# Altium schematic symbol library AutonomousVehicle_Lib.SchLib: 36 symbols
Pins are listed as number, name and electrical type; pins without a type are passive.

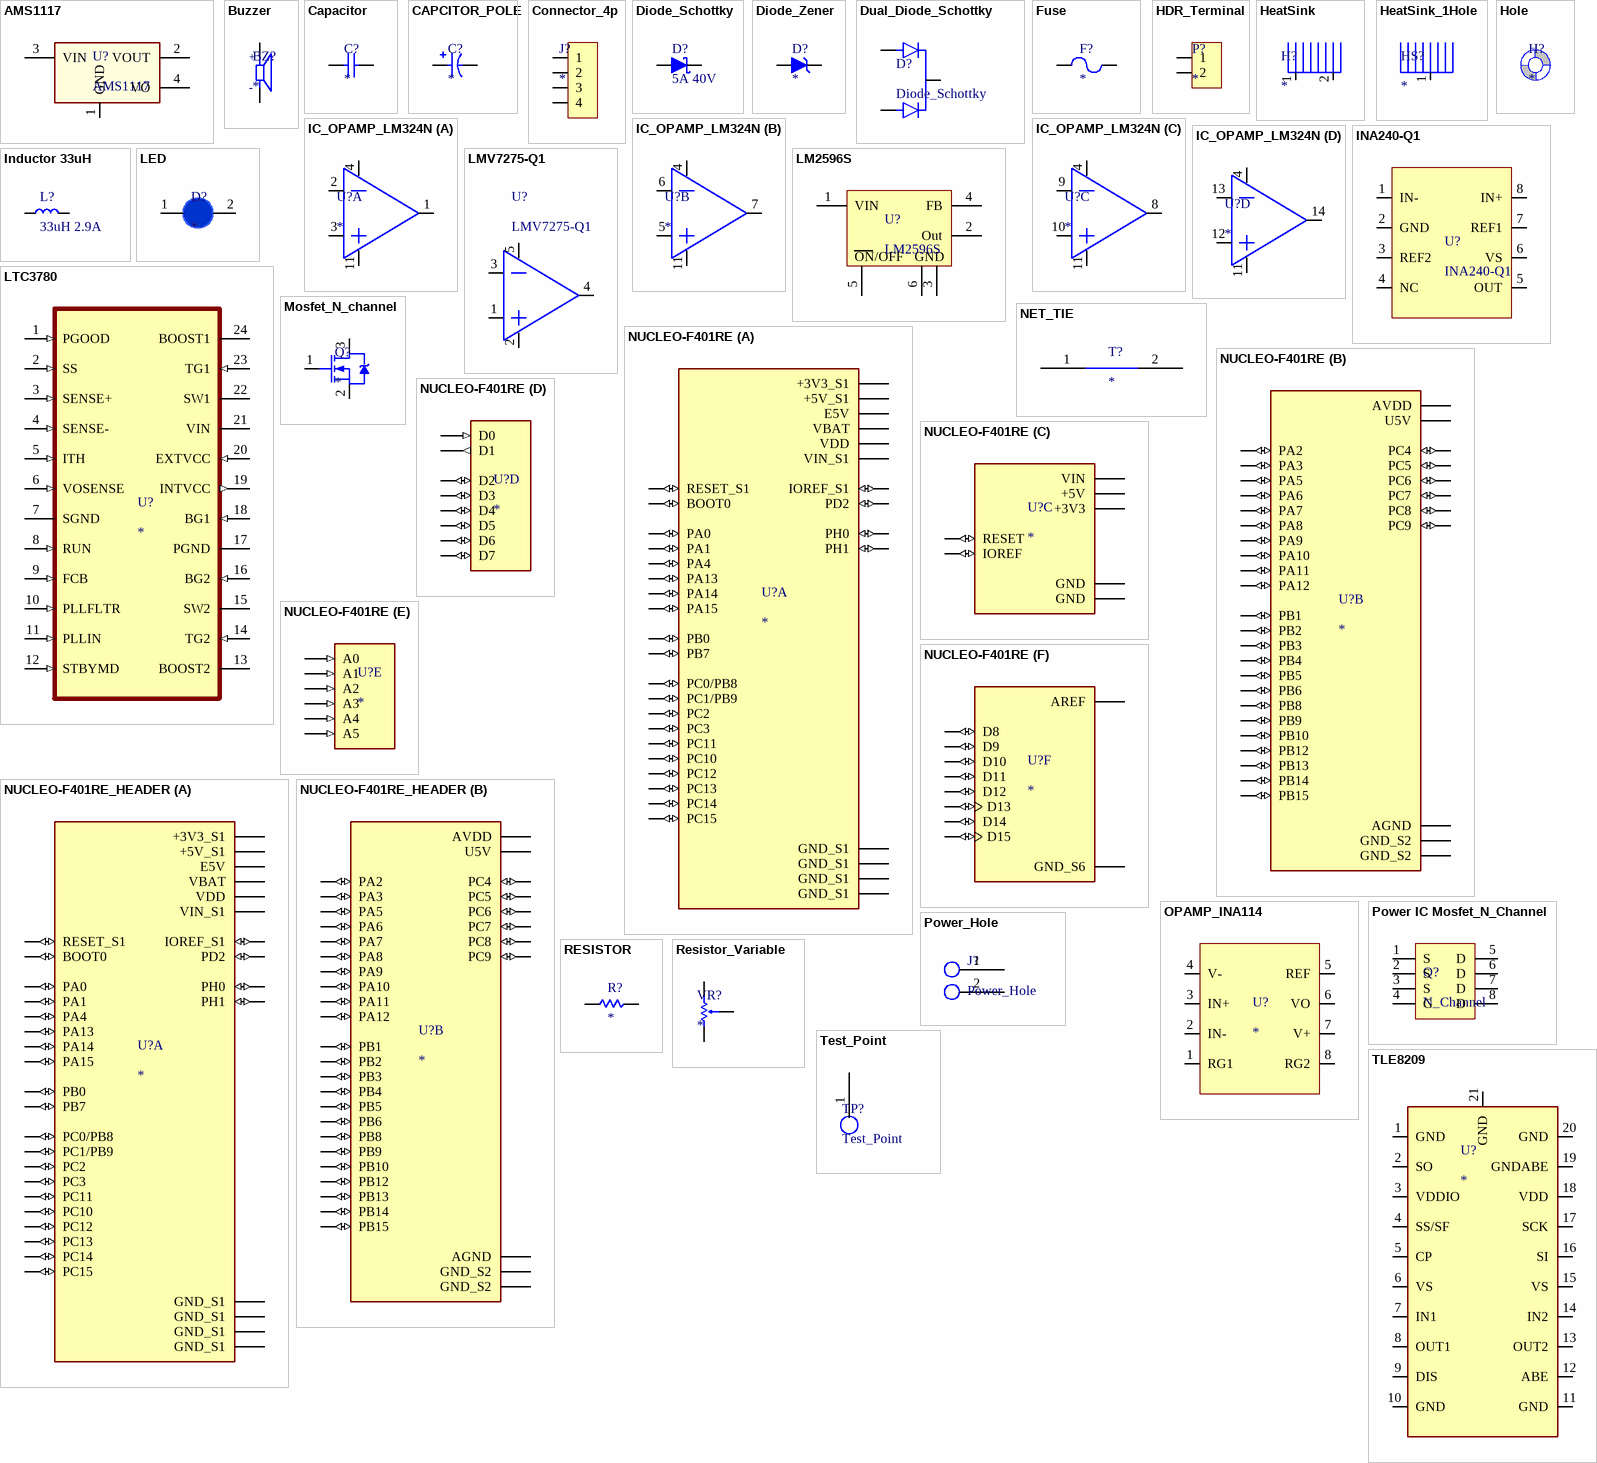
[diagram p0: symbols AMS1117 to TLE8209]

## AMS1117
designator U?
IC Linear Drop Out 3.3V 1A SOT-223
footprint AMS1117
pins: 1 GND, 2 VOUT, 3 VIN (power), 4 VO

## Buzzer
designator BZ?
Frequency DIP Buzzer, 9x4.2mm, 80dB, 9056-TS; URL: https://www.thegioiic.com/9056-ts-dip-buzzer-tan-so-9x4-2mm-80db
footprint BUZZER_DIP_9X4.2
pins: M, P
text: +; -

## Capacitor
designator C?
Capacitor
footprint CAP_1206
footprint CAP_RADIAL_2.54
footprint CAP_4x7mm
footprint Mica_CAP
pins: 1, 2

## CAPCITOR_POLE
designator C?
Capacitor D4xL7; URL: *
footprint CAP_4x7mm
pins: 1, 2

## Connector_4p
designator J?
Connector 4 pins
footprint Connector-4P-2mm
pins: 1, 2, 3, 4

## Diode_Schottky
designator D?, comment 5A 40V
SS54 SMC Diode Schottky 5A 40V
footprint DO-214AB, SMC
footprint DO-214AB, SMA
footprint DIODE_SCHOTTKY_DO-201AD
pins: 1 A, 2 K

## Diode_Zener
designator D?
BZT52H-C3V3 Diode Zener 3.3V 375mW SOD-123F
footprint DIODE_ZENER_SOD123F
footprint 1N4728A_HoleDO-41
pins: 1 A, 2 K

## Dual_Diode_Schottky
designator D?, comment Diode_Schottky
MBR20100CT Diode Schottky 100V 10A TO-220
footprint TO-220AB
pins: 1 A1, 2 C, 3 A2

## Fuse
designator F?
Fuse; JLCPCB Part: *; URL: *
footprint FuseHolder1808
footprint FUSERUEF400 (RUEF400 30V 4A)
pins: 1, 2

## HDR_Terminal
designator P?
HDR_Terminal 2 pin; Supplier: ThegioiIC; ComponentLink1Description: URL; ComponentLink1URL: https://www.thegioiic.com/kf128-2-v-domino-2-chan-thang-3-5mm-300v-10a-han-pcb
footprint HDR_Terminal_3.5mm
footprint HDR_Header_2.54
footprint HDR_HEADER_2.0_HORIZONTAL
footprint KF-5.08-2-R
pins: 1, 2

## HeatSink
designator H?
Heat Sink 2 Hole
footprint HeatSink TO-220
footprint HEATSINK_TO220_SMALL
pins: 1, 2

## HeatSink_1Hole
designator HS?
footprint HEATSINK_TO220_SMALL
pins: 1

## Hole
designator H?
Hole
footprint Hole_3.2mm
pins: 1 Screw

## IC_OPAMP_LM324N
designator U?
LM324N IC OPAMP General Purpose Amplifier 4 Circuit 1.2MHZ ,14-DIP; URL: https://www.thegioiic.com/lm324n-ic-opamp-general-purpose-amplifier-4-circuit-1-2mhz-14-dip
footprint LM324_DIP14
part A pins: 1 OUT1, 2 IN1-, 3 IN1+, 4 VCC, 11 GND
part B pins: 4 VCC, 5 IN2+, 6 IN2-, 7 OUT2, 11 GND
part C pins: 4 VCC, 8 OUT3, 9 IN3-, 10 IN3+, 11 GND
part D pins: 4 VCC, 11 GND, 12 IN4+, 13 IN4-, 14 OUT4

## INA240-Q1
designator U?
INA240-Q1 AEC-Q100, –4-V to 80-V, Bidirectional, Ultra-Precise Current Sense Amplifier With Enhanced PWM Rejection
footprint INA240-Q1-SOIC-8
pins: 1 IN-, 2 GND, 3 REF2, 4 NC, 5 OUT, 6 VS, 7 REF1, 8 IN+

## Inductor 33uH
designator L?, comment 33uH 2.9A
Inductor SMD 1038-330 33uH 2.9A; Supplier1: ThegioiIC; ComponentLink1Description: URL1; ComponentLink1URL: https://www.thegioiic.com/cdrh127-cuon-cam-dan-smd-1280-330-33uh-4-2a
footprint CDRH127
pins: 1, 2

## LED
designator D?
DIP LED Blue; URL: https://www.thegioiic.com/led-xanh-duong-3mm-chan-dai
footprint DIP_LED_3MM
pins: 1 A, 2 K

## LM2596S
designator U?
IC Switching Buck LM2596S-5.0.  TO-263-5; Supplier1: ThegioiIC; URL1: https://www.thegioiic.com/lm2596s-5-0-ic-dieu-chinh-giam-ap-5v-3a-to-263-5
footprint LM2596S
pins: 1 VIN, 2 Out, 3 GND, 4 FB, 5 ~{ON}/OFF, 6 PAD
text: ON/OFF

## LMV7275-Q1
designator U?
LMV7275-Q1 Automotive Single 1.8-V Low Power Comparator With Rail-to-Rail Input. SC-70 package.
footprint LMV7275-Q1
pins: 1 IN+, 2 V-, 3 IN-, 4 OUT, 5 V+

## LTC3780
designator U?
LTC3780 -  Buck-boost switching regulator controller
footprint LTC3780
pins: 1 PGOOD (in), 2 SS (in), 3 SENSE+ (in), 4 SENSE- (in), 5 ITH (in), 6 VOSENSE (in), 7 SGND, 8 RUN (in), 9 FCB (in), 10 PLLFLTR (in), 11 PLLIN (in), 12 STBYMD (in), 13 BOOST2 (power), 14 TG2 (in), 15 SW2, 16 BG2 (in), 17 PGND, 18 BG1 (in), 19 INTVCC (out), 20 EXTVCC (in), 21 VIN (power), 22 SW1, 23 TG1 (in), 24 BOOST1 (power)

## Mosfet_N_channel
designator Q?
Mosfet_N_Channel
footprint MOSFET_N_SOT23-3
footprint MOSFET_N_PowerPAKSO-8
footprint TO-92
pins: 1 G, 2 S, 3 D

## NET_TIE
designator T?
Straight Net Tie
footprint NET_TIE_2.0mm
footprint NET_TIE_0.5MM
pins: 1, 2

## NUCLEO-F401RE
designator U?
STM32 Nucleo-64 development board with STM32F401RET6 MCU, supports Arduino and ST morpho connectivity; MP: NUCLEO-F401RE; Availability: Unavailable; Price: None; Package: None; Value: *
footprint Nucleo-F401RE
footprint NUCLEO-F401RE-HEADER
part A pins: CN7_1 PC10 (io), CN7_2 PC11 (io), CN7_3 PC12 (io), CN7_4 PD2 (io), CN7_5 VDD (power), CN7_6 E5V (power), CN7_7 BOOT0 (io), CN7_8 GND_S1 (power), CN7_12 IOREF_S1 (io), CN7_13 PA13 (io), CN7_14 RESET_S1 (io), CN7_15 PA14 (io), CN7_16 +3V3_S1 (power), CN7_17 PA15 (io), CN7_18 +5V_S1 (power), CN7_19 GND_S1 (power), CN7_20 GND_S1 (power), CN7_21 PB7 (io), CN7_22 GND_S1 (power), CN7_23 PC13 (io), CN7_24 VIN_S1 (power), CN7_25 PC14 (io), CN7_27 PC15 (io), CN7_28 PA0 (io), CN7_29 PH0 (io), CN7_30 PA1 (io), CN7_31 PH1 (io), CN7_32 PA4 (io), CN7_33 VBAT (power), CN7_34 PB0 (io), CN7_35 PC2 (io), CN7_36 PC1/PB9 (io), CN7_37 PC3 (io), CN7_38 PC0/PB8 (io)
part B pins: CN10_1 PC9 (io), CN10_2 PC8 (io), CN10_3 PB8 (io), CN10_4 PC6 (io), CN10_5 PB9 (io), CN10_6 PC5 (io), CN10_7 AVDD (power), CN10_8 U5V (power), CN10_9 GND_S2 (power), CN10_11 PA5 (io), CN10_12 PA12 (io), CN10_13 PA6 (io), CN10_14 PA11 (io), CN10_15 PA7 (io), CN10_16 PB12 (io), CN10_17 PB6 (io), CN10_19 PC7 (io), CN10_20 GND_S2 (power), CN10_21 PA9 (io), CN10_22 PB2 (io), CN10_23 PA8 (io), CN10_24 PB1 (io), CN10_25 PB10 (io), CN10_26 PB15 (io), CN10_27 PB4 (io), CN10_28 PB14 (io), CN10_29 PB5 (io), CN10_30 PB13 (io), CN10_31 PB3 (io), CN10_32 AGND (power), CN10_33 PA10 (io), CN10_34 PC4 (io), CN10_35 PA2 (io), CN10_37 PA3 (io)
part C pins: CN6_2 IOREF (io), CN6_3 RESET (io), CN6_4 +3V3 (power), CN6_5 +5V (power), CN6_6 GND (power), CN6_7 GND (power), CN6_8 VIN (power)
part D pins: CN9_1 D0 (in), CN9_2 D1 (out), CN9_3 D2 (io), CN9_4 D3 (io), CN9_5 D4 (io), CN9_6 D5 (io), CN9_7 D6 (io), CN9_8 D7 (io)
part E pins: CN8_1 A0 (in), CN8_2 A1 (in), CN8_3 A2 (in), CN8_4 A3 (in), CN8_5 A4 (in), CN8_6 A5 (in)
part F pins: CN5_1 D8 (io), CN5_2 D9 (io), CN5_3 D10 (io), CN5_4 D11 (io), CN5_5 D12 (io), CN5_6 D13 (io), CN5_7 GND_S6 (power), CN5_8 AREF (power), CN5_9 D14 (io), CN5_10 D15 (io)

## NUCLEO-F401RE_HEADER
designator U?
STM32 Nucleo-64 development board with STM32F401RET6 MCU, supports Arduino and ST morpho connectivity; MP: NUCLEO-F401RE; Availability: Unavailable; Price: None; Package: None; Value: *
footprint NUCLEO-F401RE-HEADER
part A pins: CN7_1 PC10 (io), CN7_2 PC11 (io), CN7_3 PC12 (io), CN7_4 PD2 (io), CN7_5 VDD (power), CN7_6 E5V (power), CN7_7 BOOT0 (io), CN7_8 GND_S1 (power), CN7_12 IOREF_S1 (io), CN7_13 PA13 (io), CN7_14 RESET_S1 (io), CN7_15 PA14 (io), CN7_16 +3V3_S1 (power), CN7_17 PA15 (io), CN7_18 +5V_S1 (power), CN7_19 GND_S1 (power), CN7_20 GND_S1 (power), CN7_21 PB7 (io), CN7_22 GND_S1 (power), CN7_23 PC13 (io), CN7_24 VIN_S1 (power), CN7_25 PC14 (io), CN7_27 PC15 (io), CN7_28 PA0 (io), CN7_29 PH0 (io), CN7_30 PA1 (io), CN7_31 PH1 (io), CN7_32 PA4 (io), CN7_33 VBAT (power), CN7_34 PB0 (io), CN7_35 PC2 (io), CN7_36 PC1/PB9 (io), CN7_37 PC3 (io), CN7_38 PC0/PB8 (io)
part B pins: CN10_1 PC9 (io), CN10_2 PC8 (io), CN10_3 PB8 (io), CN10_4 PC6 (io), CN10_5 PB9 (io), CN10_6 PC5 (io), CN10_7 AVDD (power), CN10_8 U5V (power), CN10_9 GND_S2 (power), CN10_11 PA5 (io), CN10_12 PA12 (io), CN10_13 PA6 (io), CN10_14 PA11 (io), CN10_15 PA7 (io), CN10_16 PB12 (io), CN10_17 PB6 (io), CN10_19 PC7 (io), CN10_20 GND_S2 (power), CN10_21 PA9 (io), CN10_22 PB2 (io), CN10_23 PA8 (io), CN10_24 PB1 (io), CN10_25 PB10 (io), CN10_26 PB15 (io), CN10_27 PB4 (io), CN10_28 PB14 (io), CN10_29 PB5 (io), CN10_30 PB13 (io), CN10_31 PB3 (io), CN10_32 AGND (power), CN10_33 PA10 (io), CN10_34 PC4 (io), CN10_35 PA2 (io), CN10_37 PA3 (io)

## OPAMP_INA114
designator U?
INA114AP IC Instrumentation Amplifier 1MHZ, 8-DIP; URL: https://www.thegioiic.com/products?search=INA114
footprint INA114AP
pins: 1 RG1, 2 IN-, 3 IN+, 4 V-, 5 REF, 6 VO, 7 V+, 8 RG2

## Power IC Mosfet_N_Channel
designator Q?, comment N_Channel
N-Channel 40 V 58A (Tc) 4.6W (Ta), 46W (Tc) Surface Mount PowerPAK® SO-8
footprint MOSFET_N_PowerPAKSO-8
pins: 1 S, 2 S, 3 S, 4 G, 5 D, 6 D, 7 D, 8 D

## Power_Hole
designator J?
footprint Power_Hole_2mm_THT
pins: 1 0, 2 1

## RESISTOR
designator R?
Resistor; MP: NUCLEO-F401RE; Availability: Unavailable; Price: None; Package: None; Value: *
footprint RESISTOR-1/2W
footprint RESISTOR-1/4W
footprint RESISTOR-1W
footprint RESISTOR-2W
footprint RESISTOR-3W
footprint RESISTOR-SMD-1206
footprint RESISTOR-SMD-2010
footprint RESISTOR-SMD-2512
footprint Shunt_Resistor
pins: 1, 2

## Resistor_Variable
designator VR?
Variable Resister, 3 pins, 10 KOhm
footprint RESISTOR_VARIABLE
pins: 1, 2, 3

## Test_Point
designator TP?
footprint TP_1_5mm_SMD
pins: 1

## TLE8209
designator U?
SPI Programmable H-Bridge, Automotive Application for Motor Control, Throttle Control,...
footprint TLE8209_2E_PG-DSO-20-71 (SOIC, 20-Leads, Body 12.70x7.50mm, Pitch 1.27mm, Thermal Pad 7.00x4.80mm, IPC Medium Density)
footprint TLE8209-2SA-PG-DSO-20-65 (SOIC, 20-Leads, Body 15.90x11.00mm, Pitch 1.27mm, Thermal Pad 13.90x6.00mm, IPC Medium Density)
pins: 1 GND, 2 SO, 3 VDDIO, 4 SS/SF, 5 CP, 6 VS, 7 IN1, 8 OUT1, 9 DIS, 10 GND, 11 GND, 12 ABE, 13 OUT2, 14 IN2, 15 VS, 16 SI, 17 SCK, 18 VDD, 19 GNDABE, 20 GND, 21 GND (power)

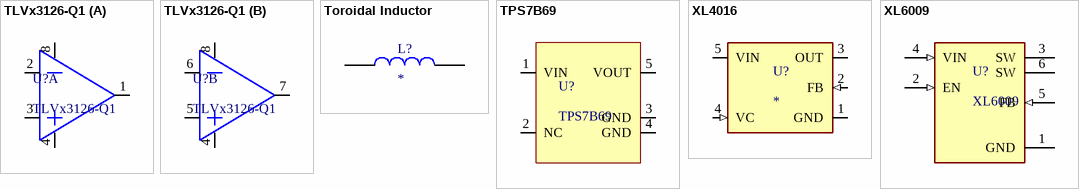
[diagram p1: symbols TLVx3126-Q1 to XL6009]

## TLVx3126-Q1
designator U?
TLVx316-Q1 10-MHz, Rail-to-Rail Input/Output, Low-Voltage, 1.8-V CMOS Operational Amplifiers
footprint TLVx316-Q1-VSSOP8
part A pins: 1 OUTA, 2 INA-, 3 INA+, 4 GND, 8 VCC
part B pins: 4 GND, 5 INB+, 6 INB-, 7 OUTB, 8 VCC

## Toroidal Inductor
designator L?
Dipole Toroidal Inductor, 47uH, 8A
footprint Toroidal Inductor
pins: 1, 2

## TPS7B69
designator U?
Linear Drop Out ICs for Automotive Application. TPS7B6933QDBVRQ1 for 3.3V. TPS7B6950QDBVRQ1 for 5V
footprint TPS7B69
pins: 1 VIN, 2 NC, 3 GND, 4 GND, 5 VOUT

## XL4016
designator U?
IC Switching Buck 8A TO-220-5
footprint XL4016_TO-220-5
pins: 1 GND (power), 2 FB (in), 3 OUT (power), 4 VC (in), 5 VIN (power)

## XL6009
designator U?
XL6009. IC Switching Boost 5A. TO-263-5; Supplier1: ThegioiIC; ComponentLink1Description: URL1; ComponentLink1URL: https://www.thegioiic.com/xl6009-ic-dieu-chinh-tang-ap-5a-to-263-5
footprint IC_XL6009
pins: 1 GND (power), 2 EN (in), 3 SW, 4 VIN (in), 5 FB (in), 6 SW